# EAGLE library part ACS711 (library StationaryBike_lib_v01)
ACS711 hall effect current sensor, 12-pin WFQFN Package
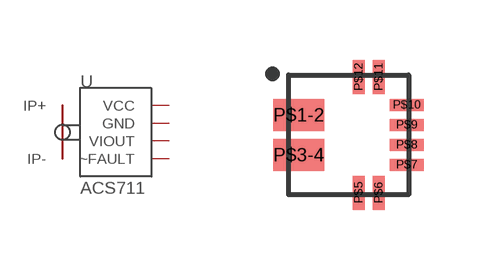
[diagram p0: symbol with the pads of 12-WFQFN; footprint 12-WFQFN]

Designator prefix -

## ACS711 (DIGIKEY: 620-1484-1-ND; MODEL: ACS711EEXLT-31AB-T)  [12-WFQFN]
P$1-2  IP+
P$3-4  IP-  out
P$5  GND
P$6  ~FAULT
P$11  VIOUT
P$12  VCC

## Footprint 12-WFQFN (pad centres in mm)
12-pin QFN package for ACS711
smd 1.27 x 0.8: P$1-2 -1.25,0.5; P$3-4 -1.25,-0.5
smd 0.3 x 0.85: P$5 0.25,-1.45; P$6 0.75,-1.45; P$11 0.75,1.45; P$12 0.25,1.45
smd 0.85 x 0.3: P$7 1.45,-0.75; P$8 1.45,-0.25; P$9 1.45,0.25; P$10 1.45,0.75